# EAGLE library part MCP2515 (library wolfi)
Stand-Alone CAN Controllerwith SPI Interface http://www.microchip.com/MCP2515
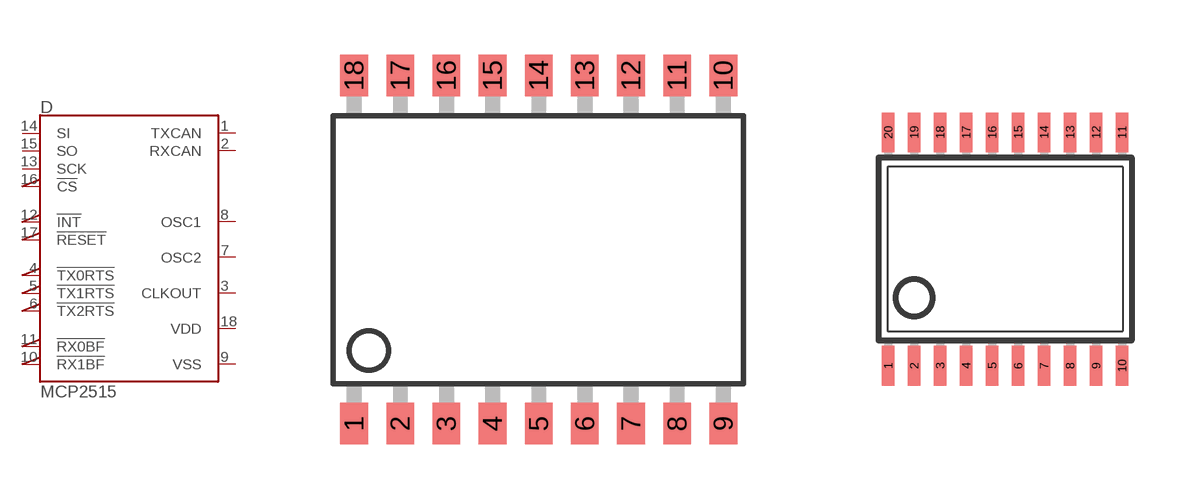
[diagram p30: symbol with the pads of SO-18W; footprints SO-18W, TSSOP20]

Designator prefix D

## MCP2515-E/SO  [SO-18W]
1  TXCAN  out
2  RXCAN  in
3  CLKOUT  out
4  !TX0RTS  in
5  !TX1RTS  in
6  !TX2RTS
7  OSC2  out
8  OSC1  in
9  VSS  pwr
10  !RX1BF  out
11  !RX0BF  out
12  !INT  out
13  SCK  in
14  SI  in
15  SO  out
16  !CS  in
17  !RESET  in
18  VDD  pwr

## MCP2515-E/ST  [TSSOP20]
1  TXCAN  out
2  RXCAN  in
3  CLKOUT  out
4  !TX0RTS  in
5  !TX1RTS  in
7  !TX2RTS
8  OSC2  out
9  OSC1  in
10  VSS  pwr
11  !RX1BF  out
12  !RX0BF  out
13  !INT  out
14  SCK  in
16  SI  in
17  SO  out
18  !CS  in
19  !RESET  in
20  VDD  pwr

## Footprint SO-18W (pad centres in mm)
Small Outline Wide Plastic Gull Wing 300-mil body, package type SO
smd 0.762 x 1.143: 1 -5.08,-4.788; 2 -3.81,-4.788; 3 -2.54,-4.788; 4 -1.27,-4.788; 5 0,-4.788; 6 1.27,-4.788; 7 2.54,-4.788; 8 3.81,-4.788; 9 5.08,-4.788; 10 5.08,4.788; 11 3.81,4.788; 12 2.54,4.788; 13 1.27,4.788; 14 0,4.788; 15 -1.27,4.788; 16 -2.54,4.788; 17 -3.81,4.788; 18 -5.08,4.788

## Footprint TSSOP20 (pad centres in mm)
Thin Shrink Small Outline Plastic 20 MAX3223-MAX3243.pdf
smd 0.305 x 0.991: 1 -2.925,-2.918; 2 -2.275,-2.918; 3 -1.625,-2.918; 4 -0.975,-2.918; 5 -0.325,-2.918; 6 0.325,-2.918; 7 0.975,-2.918; 8 1.625,-2.918; 9 2.275,-2.918; 10 2.925,-2.918; 11 2.925,2.918; 12 2.275,2.918; 13 1.625,2.918; 14 0.975,2.918; 15 0.325,2.918; 16 -0.325,2.918; 17 -0.975,2.918; 18 -1.625,2.918; 19 -2.275,2.918; 20 -2.925,2.918